# EAGLE library part LM358A (library IC)
ST Micro Low Power dual operational amplifier
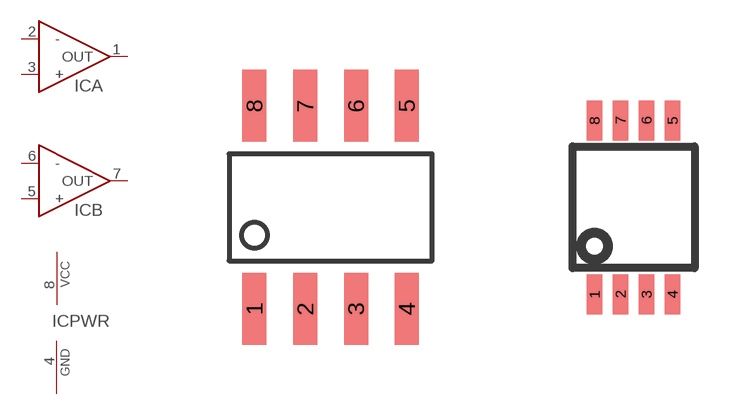
[diagram p47: symbol with the pads of SOIC8; footprints SOIC8, MSOP-8]

Designator prefix IC; gates A=LM358-A B=LM358-A PWR=PWR-VCC-GND

## LM358A-D  [SOIC8]
1  A:OUT
2  A:-
3  A:+
4  PWR:GND  pwr
5  B:+
6  B:-
7  B:OUT
8  PWR:VCC  pwr

## LM358A-DM  [MSOP-8]
Pads as for SOIC8

## Footprint SOIC8 (pad centres in mm)
8 pin SOIC 150-mil package
smd 0.6 x 1.8: 1 -1.905,-2.54; 2 -0.635,-2.54; 3 0.635,-2.54; 4 1.905,-2.54; 5 1.905,2.54; 6 0.635,2.54; 7 -0.635,2.54; 8 -1.905,2.54

## Footprint MSOP-8 (pad centres in mm)
Linear Tech MSOP-8, National Semiconductor MM, On-Semi Micro8 (DM)
smd 0.38 x 1: 1 -0.975,-2.175; 2 -0.325,-2.175; 3 0.325,-2.175; 4 0.975,-2.175; 5 0.975,2.175; 6 0.325,2.175; 7 -0.325,2.175; 8 -0.975,2.175